# EAGLE library part MC14024BCPG (library ON_Semiconductor_By_element14_Batch_1)
7-Stage Ripple Counter
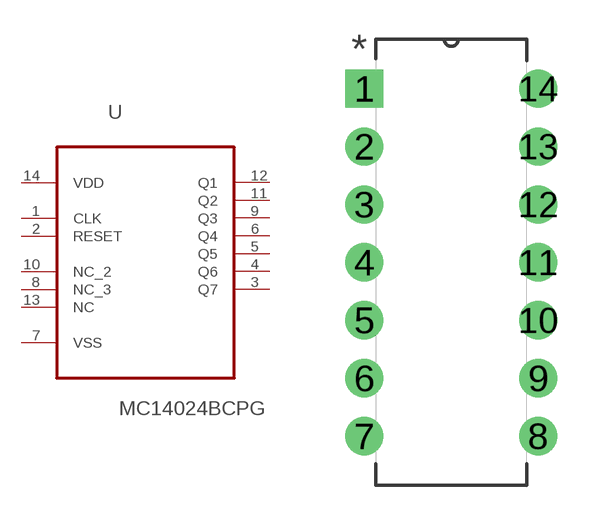
[diagram p216: symbol with the pads of DIP254P762X469-14; footprint DIP254P762X469-14]

Designator prefix U

## MC14024BCPG (MPN: MC14024BCPG; OC_FARNELL: 9664610; OC_NEWARK: 45J1036; PACKAGE: PDIP-14; SUPPLIER: On Semiconductor)  [DIP254P762X469-14]
1  CLK  in
2  RESET  in
3  Q7  out
4  Q6  out
5  Q5  out
6  Q4  out
7  VSS  pwr
8  NC_3  nc
9  Q3  out
10  NC_2  nc
11  Q2  out
12  Q1  out
13  NC  nc
14  VDD  pwr

## Footprint DIP254P762X469-14 (pad centres in mm)
drill 1.118 square: 1 -7.62,15.24
drill 1.118: 2 -7.62,12.7; 3 -7.62,10.16; 4 -7.62,7.62; 5 -7.62,5.08; 6 -7.62,2.54; 7 -7.62,0; 8 0,0; 9 0,2.54; 10 0,5.08; 11 0,7.62; 12 0,10.16; 13 0,12.7; 14 0,15.24